# Altium footprint library ELKO_d12.5_h20.PcbLib: 1 footprints
Each footprint in its own frame and in the unit in brackets; x right, y up, seen from the top. Pads: shape width x height; smd on the part's side, far side on the other; paste and mask are expansions set on the pad; w line width, h text height; cw(c..) or ccw(c..) is an arc to the next point about the centre after c.
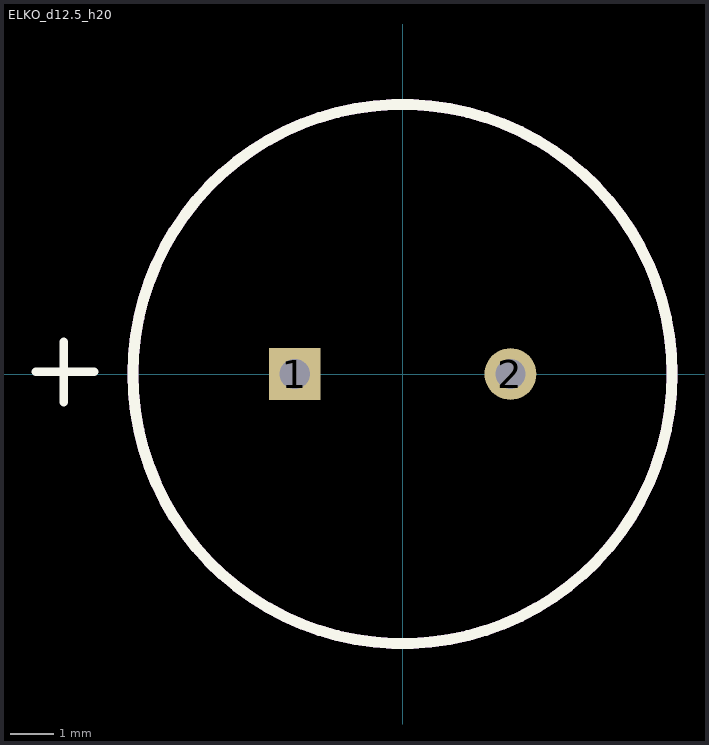
[diagram p0: the footprint, top view; thin cyan lines are the x and y axes]

## ELKO_d12.5_h20 [mm]
pads (2):
  rect 1.2x1.2 hole 0.7: 1(-2.5,0)
  round 1.2 hole 0.7: 2(2.5,0)
Top Overlay:
  circle w0.254: c0,0 r6.25
  lines w0.2: -8.5,0.05 -7.15,0.05 ; -7.85,-0.65 -7.85,0.75
Mechanical 1:
  circle w0.254: c0,0 r6.25
3D body: height 20, standoff 0, extent -6.25,-6.288 6.201,6.188